# Altium footprint library XJTLU_Torpedo.PcbLib: 5 footprints
Each footprint in its own frame and in the unit in brackets; x right, y up, seen from the top. Pads: shape width x height; smd on the part's side, far side on the other; paste and mask are expansions set on the pad; w line width, h text height; cw(c..) or ccw(c..) is an arc to the next point about the centre after c.
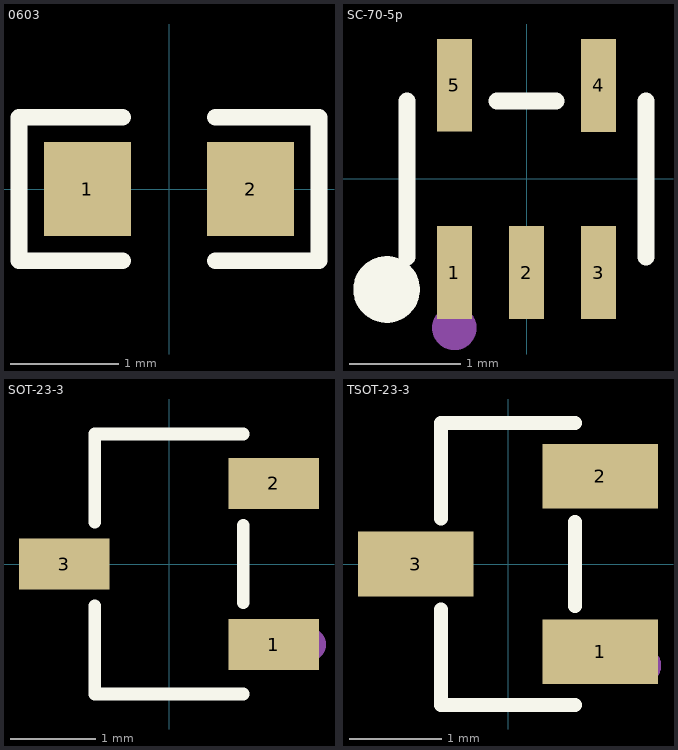
[diagram p0: the footprints below, top view; thin cyan lines are the x and y axes]

## 0603 [mm]
pads (2):
  rect 0.806x0.864 smd: 1(-0.753,0) 2(0.753,0)
Top Overlay:
  lines w0.152: -0.426,-0.661 -1.385,-0.661 -1.385,0.661 -0.426,0.661 ; 0.426,-0.661 1.385,-0.661 1.385,0.661 0.426,0.661
Top Paste:
  region: 1.195,0.45 0.395,0.45 0.345,0.4 0.345,0.172 0.715,0.172 0.715,-0.158 0.345,-0.158 0.345,-0.4 0.395,-0.45 1.195,-0.45 1.245,-0.4 1.245,0.4
  region: -0.355,0.4 -0.355,0.172 -0.735,0.172 -0.735,-0.158 -0.355,-0.158 -0.355,-0.4 -0.405,-0.45 -1.195,-0.45 -1.245,-0.4 -1.245,0.4 -1.195,0.45 -0.405,0.45
3D body: height 0.5, standoff 0, extent -0.889,-0.635 0.889,0.635

## PCBComponent_1 - duplicate [mm]

## SC-70-5p [mm]
pads (5):
  rect 0.315x0.835 smd: 1(-0.65,-0.842) 2(0,-0.843) 3(0.65,-0.843) 4(0.65,0.842) 5(-0.65,0.843)
Top Overlay:
  circle w0.3: c-1.26,-0.995 r0.15
  lines w0.152: -1.076,-0.701 -1.076,0.701 ; -0.264,0.701 0.264,0.701 ; 1.076,-0.701 1.076,0.701
Mechanical 15:
  circle w0.2: c-0.65,-1.341 r0.1
3D body: height 1.1, standoff 0.1, extent -1.143,-1.143 1.143,1.016

## SOT-23-3 [mm]
pads (3):
  rect 1.07x0.6 smd: 1(1.235,-0.95) 2(1.235,0.95) 3(-1.235,0)
Top Overlay:
  lines w0.152: -0.876,-0.495 -0.876,-1.536 0.876,-1.536 ; -0.876,0.495 -0.876,1.536 0.876,1.536 ; 0.876,-0.455 0.876,0.455
Mechanical 15:
  circle w0.2: c1.651,-0.95 r0.1
3D body: height 1.1, standoff 0.1, extent -1.397,-1.524 1.397,1.524

## TSOT-23-3 [mm] "霍尔效应开关"
pads (3):
  rect 1.25x0.7 smd: 1(1,-0.95) 2(1,0.95) 3(-1,0)
Top Overlay:
  lines w0.152: -0.726,-0.495 -0.726,-1.526 0.726,-1.526 ; -0.726,0.495 -0.726,1.526 0.726,1.526 ; 0.726,-0.455 0.726,0.455
Mechanical 15:
  circle w0.2: c1.46,-1.1 r0.1
3D body: height 1.3, standoff 0.07, extent -1.016,-1.524 1.016,1.524